# EAGLE library part MPL115A2 (library mpl115A2)
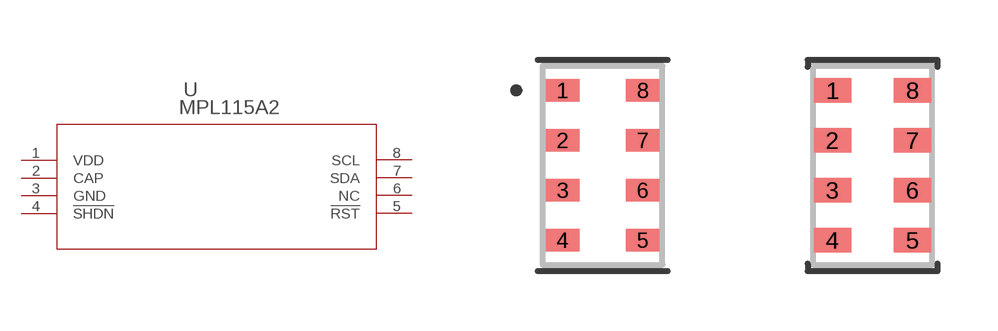
[diagram p0: symbol with the pads of LGA8_FRE; footprints LGA8_FRE, LGA8_FRE-M]

Designator prefix U

## MPL115A2 (BUILT_BY: EMA_UL_Team; MANUFACTURER_PART_NUMBER: MPL115A2; SOURCELIBRARY: Freescale_2013-06-03a; VENDOR: Freescale)  [LGA8_FRE]
1  VDD  pwr
2  CAP  pas
3  GND  pwr
4  !SHDN  pas
5  !RST  pas
6  NC  pas
7  SDA
8  SCL  in

## MPL115A2LGA8_FRE-M (BUILT_BY: EMA_UL_Team; MANUFACTURER_PART_NUMBER: MPL115A2; SOURCELIBRARY: Freescale_2013-06-03a; VENDOR: Freescale)  [LGA8_FRE-M]
Pads as for LGA8_FRE

## MPL115A2LGA8_FRE-L (BUILT_BY: EMA_UL_Team; MANUFACTURER_PART_NUMBER: MPL115A2; SOURCELIBRARY: Freescale_2013-06-03a; VENDOR: Freescale)  [LGA8_FRE-L]
Pads as for LGA8_FRE

## Footprint LGA8_FRE (pad centres in mm)
smd 0.838 x 0.559: 1 -1.003,1.875; 2 -1.003,0.625; 3 -1.003,-0.625; 4 -1.003,-1.875; 5 1.003,-1.875; 6 1.003,-0.625; 7 1.003,0.625; 8 1.003,1.875

## Footprint LGA8_FRE-M (pad centres in mm)
smd 0.94 x 0.61: 1 -1.003,1.875; 2 -1.003,0.625; 3 -1.003,-0.625; 4 -1.003,-1.875; 5 1.003,-1.875; 6 1.003,-0.625; 7 1.003,0.625; 8 1.003,1.875

## Footprint LGA8_FRE-L (pad centres in mm)
smd 0.737 x 0.508: 1 -1.003,1.875; 2 -1.003,0.625; 3 -1.003,-0.625; 4 -1.003,-1.875; 5 1.003,-1.875; 6 1.003,-0.625; 7 1.003,0.625; 8 1.003,1.875